# Altium footprint library Caps.PcbLib: 6 footprints
Each footprint in its own frame and in the unit in brackets; x right, y up, seen from the top. Pads: shape width x height; smd on the part's side, far side on the other; paste and mask are expansions set on the pad; w line width, h text height; cw(c..) or ccw(c..) is an arc to the next point about the centre after c.
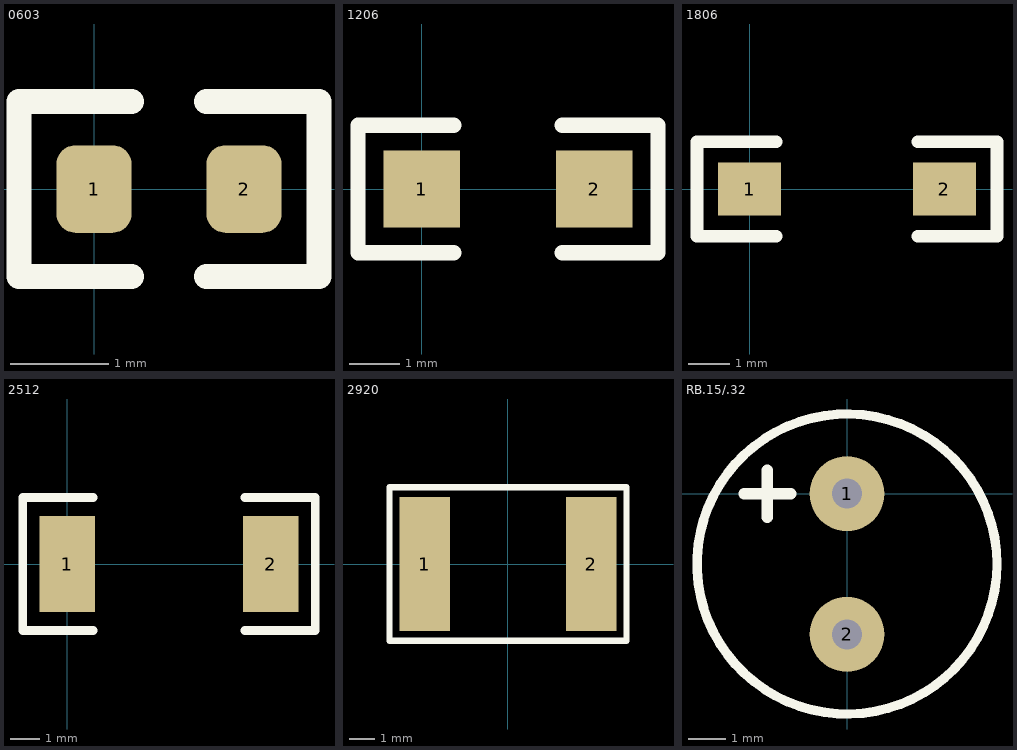
[diagram p0: the footprints below, top view; thin cyan lines are the x and y axes]

## 0603 [mil]
pads (2):
  rrect50% 30x35 smd: 1(0,0) 2(60,0)
Top Overlay:
  lines w10: 15,-35 -30,-35 -30,35 15,35 ; 45,-35 90,-35 90,35 45,35

## 1206 [mil]
pads (2):
  rect 60x60 smd: 1(0,0) 2(135,0)
Top Overlay:
  lines w12: 25,-50 -50,-50 -50,50 25,50 ; 110,-50 185,-50 185,50 110,50

## 1806 [mil]
pads (2):
  rect 60x50 smd: 1(0,0) 2(185,0)
Top Overlay:
  lines w12: 25,-45 -50,-45 -50,45 25,45 ; 160,-45 235,-45 235,45 160,45

## 2512 [mil]
pads (2):
  rect 75x130 smd: 1(0,0) 2(275,0)
Top Overlay:
  lines w12: 35,-90 -60,-90 -60,90 35,90 ; 240,-90 335,-90 335,90 240,90

## 2920 [mm]
pads (2):
  rect 2x5.3 smd: 1(-3.3,0) 2(3.3,0)
Top Overlay:
  lines w0.254: -4.699,-3.048 -4.699,3.048 4.699,3.048 4.699,-3.048 -4.699,-3.048

## RB.15/.32 [mil]
pads (2):
  round 80 hole 32: 1(0,0) 2(0,-150)
Top Overlay:
  circle w10: c0,-75 r160
  lines w12: -110,0 -60,0 ; -85,-25 -85,25